# Altium schematic symbol library KU1.SchLib: 1 symbol
Pins are listed as number, name and electrical type; pins without a type are passive.

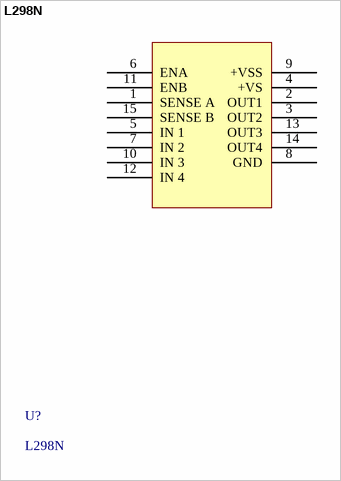
[diagram p0: symbol L298N]

## L298N
designator U?
footprint L298N - duplicate
pins: 1 SENSE A, 2 OUT1, 3 OUT2, 4 +VS, 5 IN 1, 6 ENA, 7 IN 2, 8 GND, 9 +VSS, 10 IN 3, 11 ENB, 12 IN 4, 13 OUT3, 14 OUT4, 15 SENSE B